# Altium footprint library Lab11.PcbLib: 4 footprints
Each footprint in its own frame and in the unit in brackets; x right, y up, seen from the top. Pads: shape width x height; smd on the part's side, far side on the other; paste and mask are expansions set on the pad; w line width, h text height; cw(c..) or ccw(c..) is an arc to the next point about the centre after c.
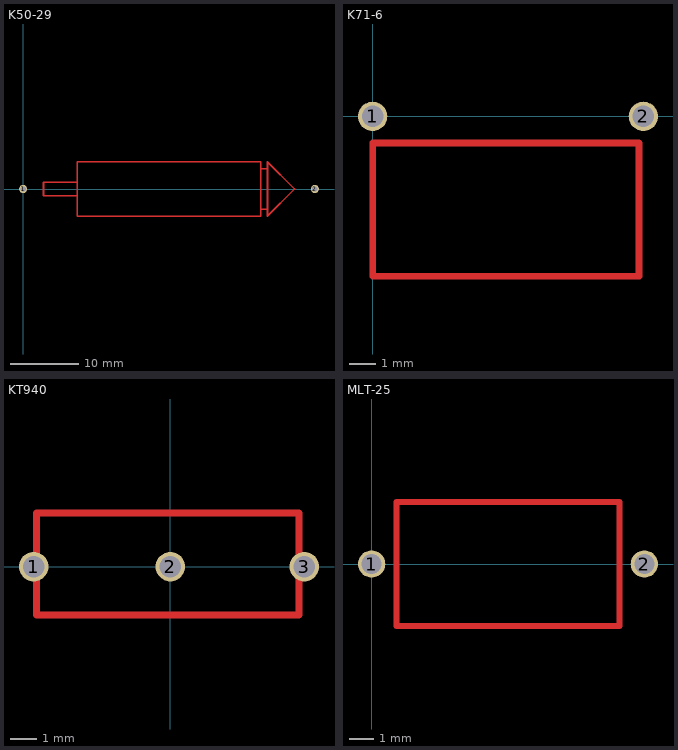
[diagram p0: the footprints below, top view; thin cyan lines are the x and y axes]

## K50-29 [mm]
pads (2):
  round 1.2 hole 0.8: 1(0,0) 2(43,0)
Top Layer:
  lines w0.254: 8,-1 3,-1 3,1 8,1 ; 35,-3 36,-3 ; 35,3 36,3 ; 36,-3 36,-4 40,0 36,4 36,3 ; 36,-3 36,3 ; 8,-4 8,4 35,4 35,-4 8,-4

## K71-6 [mm]
pads (2):
  round 1.1 hole 0.8: 1(0,0) 2(10.16,0)
Top Layer:
  lines w0.254: 0,-6 10,-6 10,-1 0,-1 0,-6

## KT940 [mm]
pads (3):
  round 1.1 hole 0.8: 1(-5.1,0) 2(0,0) 3(5,0)
Top Layer:
  lines w0.254: -5,-1.8 4.8,-1.8 4.8,2 -5,2 -5,-1.8

## MLT-25 [mm]
pads (2):
  round 1.1 hole 0.8: 1(0,0) 2(11,0)
Top Layer:
  lines w0.254: 1,-2.5 1,2.5 10,2.5 10,-2.5 1,-2.5